# EAGLE library part SENSOR_INTERFACE (library avc)
Generalized Sensor Interface
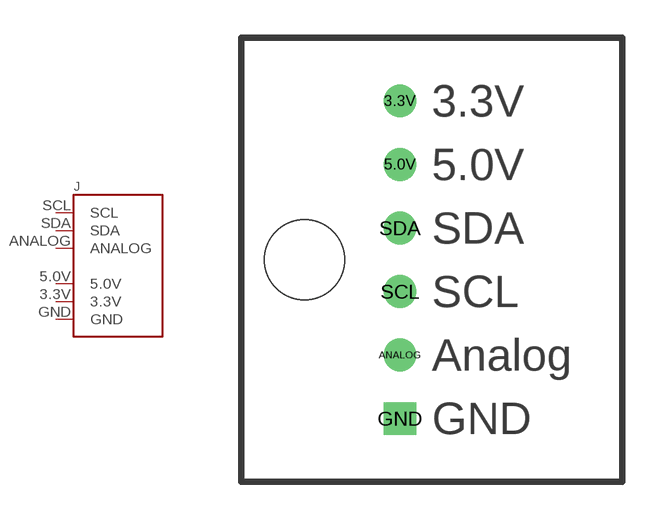
[diagram p4: symbol with the pads of SENSOR_INTERFACE; footprint SENSOR_INTERFACE]

Designator prefix J

## SENSOR_INTERFACE (PARTNUM: -)  [SENSOR_INTERFACE]
3.3V  3.3V
5.0V  5.0V
ANALOG  ANALOG
GND  GND
SCL  SCL
SDA  SDA

## Footprint SENSOR_INTERFACE (pad centres in mm)
drill 0.8: 3.3V 3.81,6.35; 5.0V 3.81,3.81; ANALOG 3.81,-3.81; SCL 3.81,-1.27; SDA 3.81,1.27
drill 0.8 square: GND 3.81,-6.35
hole 3.2 at 0,0